# Altium footprint library MateuszPytka.PcbLib: 1 footprints
Each footprint in its own frame and in the unit in brackets; x right, y up, seen from the top. Pads: shape width x height; smd on the part's side, far side on the other; paste and mask are expansions set on the pad; w line width, h text height; cw(c..) or ccw(c..) is an arc to the next point about the centre after c.
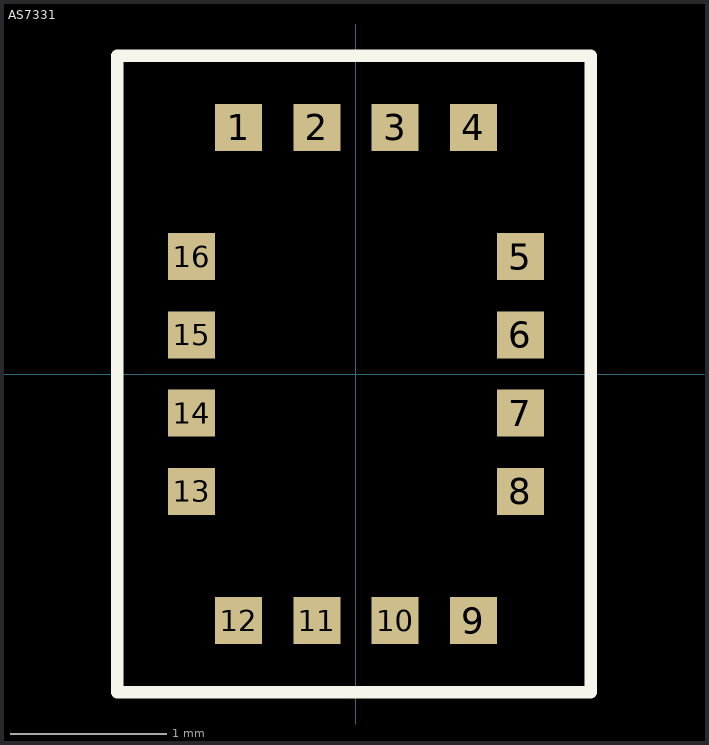
[diagram p0: the footprint, top view; thin cyan lines are the x and y axes]

## AS7331 [mm] "Może zadziała"
pads (16):
  rect 0.3x0.3 smd: 1(-0.75,1.575) 2(-0.25,1.575) 3(0.25,1.575) 4(0.75,1.575) 5(1.05,0.75) 6(1.05,0.25) 7(1.05,-0.25) 8(1.05,-0.75) 9(0.75,-1.575) 10(0.25,-1.575) 11(-0.25,-1.575) 12(-0.75,-1.575) 13(-1.05,-0.75) 14(-1.05,-0.25) 15(-1.05,0.25) 16(-1.05,0.75)
Top Overlay:
  lines w0.08: -1.524,-2.032 1.499,-2.032 1.499,2.032 -1.524,2.032 -1.524,-2.032
3D body "AS7331-AQFT.stp": height 1.2, standoff 0.01, extent -1.3,-1.825 1.3,1.825